# Altium schematic symbol library IIS2MDCTR.SchLib: 2 symbols
Pins are listed as number, name and electrical type; pins without a type are passive.

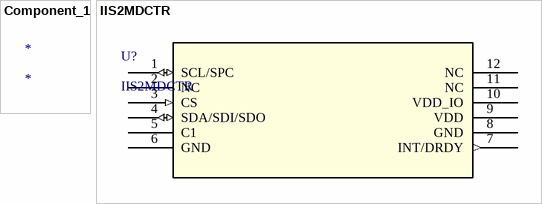
[diagram p0: symbols Component_1 to IIS2MDCTR]

## Component_1
designator *

## IIS2MDCTR
designator U?
No Description Available; Mfr_Name: STMicroelectronics; Copyright: Copyright (C) 2023 Ultra Librarian. All rights reserved.; Manufacturer_Part_Number: IIS2MDCTR; RefDes: RefDes; Type: DEV
footprint LGA-12_2X2X0P7_STM
pins: 1 SCL/SPC (io), 2 NC, 3 CS (in), 4 SDA/SDI/SDO (io), 5 C1, 6 GND, 7 INT/DRDY (out), 8 GND, 9 VDD (power), 10 VDD_IO (power), 11 NC, 12 NC